# Altium schematic symbol library SSL310A.SchLib: 1 symbol
Pins are listed as number, name and electrical type; pins without a type are passive.

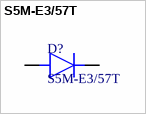
[diagram p0: symbol S5M-E3/57T]

## S5M-E3/57T
designator D?
footprint DIOM7959X262N
pins: A, C